# Altium footprint library MainPcblib.PcbLib: 316 footprints (part 20 of 20)
Each footprint in its own frame and in the unit in brackets; x right, y up, seen from the top. Pads: shape width x height; smd on the part's side, far side on the other; paste and mask are expansions set on the pad; w line width, h text height; cw(c..) or ccw(c..) is an arc to the next point about the centre after c.
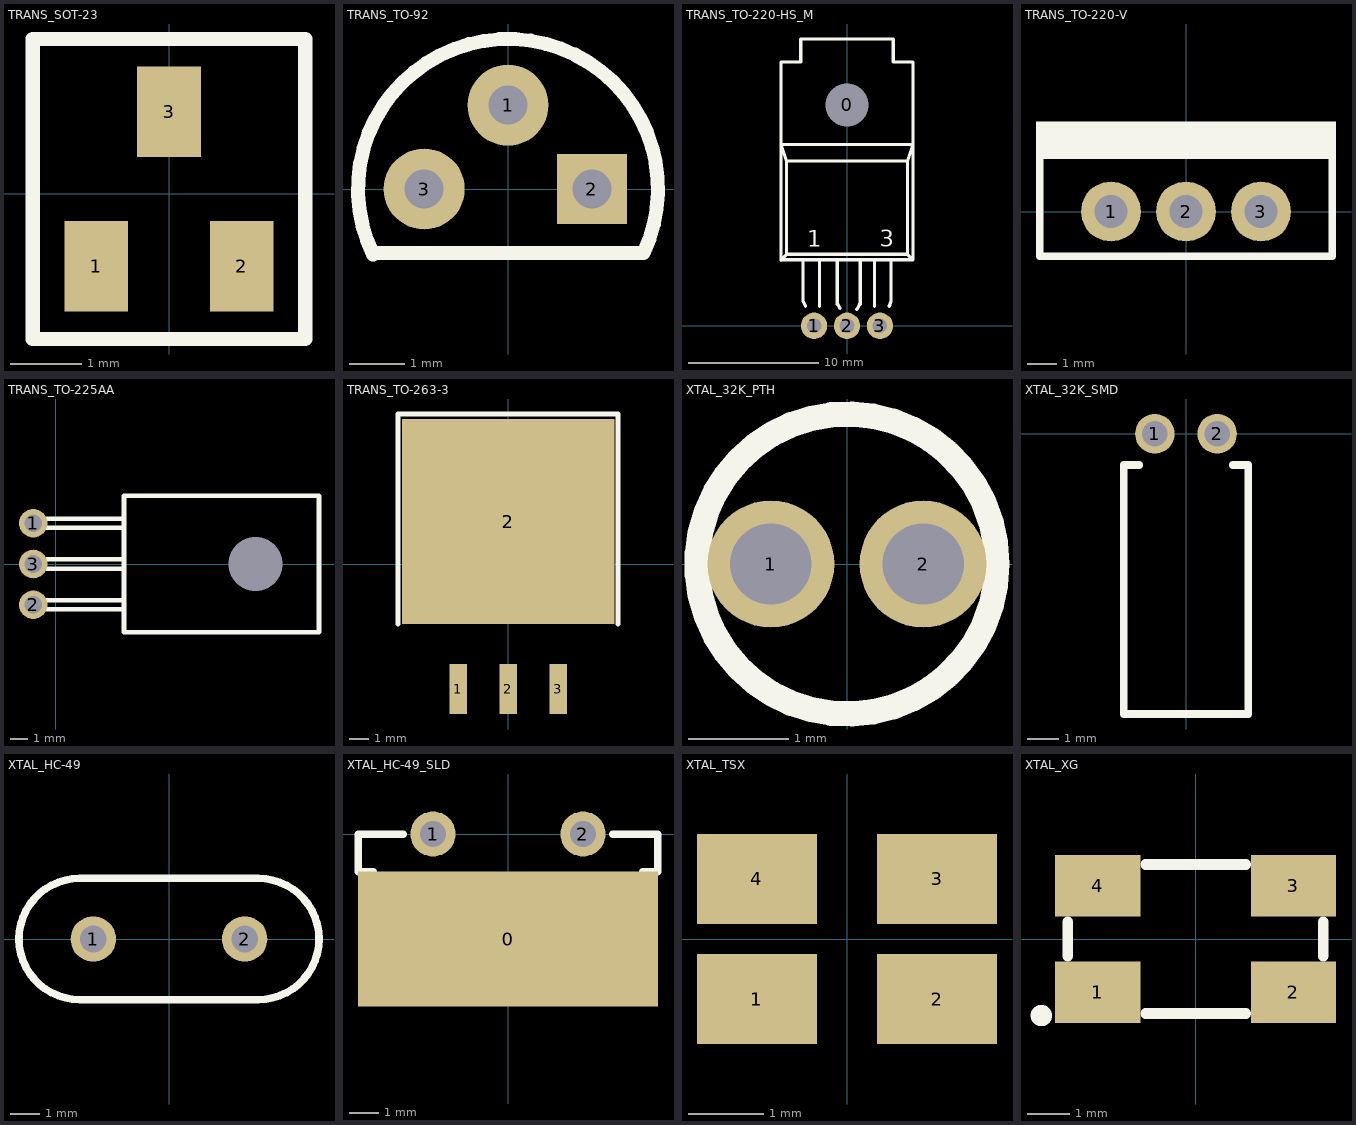
[diagram p19: the footprints below, top view; thin cyan lines are the x and y axes]

## TRANS_SOT-23 [mil]
pads (3):
  rect 35x50 smd: 1(-40,-40) 2(40,-40) 3(0,45)
Top Overlay:
  lines w7.87: -75,-80 -75,85 75,85 75,-80 -75,-80

## TRANS_TO-92 [mil]
height 275.59
pads (3):
  round 58 hole 28: 1(0,60) 3(-60,0)
  rect 50x50 hole 28: 2(60,0)
Top Overlay:
  lines w10: -96.64,-46.75 cw(c0,0) 97.02,-45.96 -95,-45.96

## TRANS_TO-220-HS_M [mil]
height 196.85
pads (4):
  round 100 hole 130: 0(0,670)
  round 80 hole 44: 1(-100,0) 2(0,0) 3(100,0)
Top Overlay:
  lines w10: -200,198.33 -200,800 -140,800 -140,870 140,870 140,800 200,800 200,200 ; -133.33,200 -133.33,75 -125.8,59.05 ; -83.33,59.05 -83.33,200 ; -30,65 -30,200 ; -30,70 -21.21,52.87 ; 30,50 38.79,67.27 ; 40,65 40,200 ; 83.33,59.05 83.33,200 ; 128,59.05 133.33,75 133.33,200 ; -183.33,216.67 183.33,216.67 ; -183.33,216.67 -200,200 200,200 ; -183.33,216.67 -183.33,500 ; -183.33,500 183.33,500 ; -183.33,500 -200,550 200,550 183.33,500 ; 183.33,216.67 183.33,500 ; 183.33,216.67 200,200
  text "1" at -120,240 h50
  text "3" at 100,240 h50

## TRANS_TO-220-V [mil]
pads (3):
  round 80 hole 44: 1(-100,0) 2(0,0) 3(100,0)
Top Overlay:
  rectangle: -200,70 200,120
  lines w10: -195,75 -195,-60 195,-60 195,75

## TRANS_TO-225AA [mm] "For BD139/140"
pads (4):
  round 0 hole 3: 0(11.176,0)
  round 1.6 hole 1: 1(-1.27,2.286) 2(-1.27,-2.286) 3(-1.27,0)
Top Overlay:
  lines w0.254: -0.508,-2.54 3.81,-2.54 ; -0.508,-2.032 3.81,-2.032 ; -0.508,-0.254 3.81,-0.254 ; -0.508,0.254 3.81,0.254 ; -0.508,2.032 3.81,2.032 ; -0.508,2.54 3.81,2.54 ; 3.81,-3.81 14.732,-3.81 14.732,3.81 3.81,3.81 3.81,-3.81

## TRANS_TO-263-3 [mil] "SMD high-power, 3pin"
pads (4):
  rect 35x100 smd: 1(-100,-250) 2(0,-250) 3(100,-250)
  rect 425x410 smd: 2(0,85)
Top Overlay:
  lines w10: -220,-120 -220,290 -220,300 220,300 220,290 220,-120

## XTAL_32K_PTH [mil]
pads (2):
  round 50 hole 32: 1(-30,0) 2(30,0)
Top Overlay:
  circle w10: c0,0 r59.06

## XTAL_32K_SMD [mm]
pads (2):
  round 1.27 hole 0.813: 1(-1,0) 2(1,0)
Top Overlay:
  lines w0.25: -1.5,-1 -2,-1 -2,-9 2,-9 2,-1 1.5,-1

## XTAL_HC-49 [mil]
pads (2):
  round 60 hole 35: 1(-100,0) 2(100,0)
Top Overlay:
  lines w10: -118.11,-80 cw(c-118.11,0) -118.11,80 118.11,80 cw(c118.11,0) 118.11,-80 -118.11,-80

## XTAL_HC-49_SLD [mil]
pads (3):
  rect 400x180 smd: 0(0,-140)
  round 60 hole 35: 1(-100,0) 2(100,0)
Top Overlay:
  lines w10: -140,0 -200,0 -200,-50 -180,-50 -180,-180 180,-180 180,-50 200,-50 200,0 140,0

## XTAL_TSX [mm]
pads (4):
  rect 1.6x1.2 smd: 1(-1.2,-0.8) 2(1.2,-0.8) 3(1.2,0.8) 4(-1.2,0.8)

## XTAL_XG [mm] "Crystal XG 6x3.5mm"
height 1.1
pads (4):
  rect 2x1.45 smd: 1(-2.3,-1.25) 2(2.3,-1.25) 3(2.3,1.25) 4(-2.3,1.25)
Top Overlay:
  circle w0.25: c-3.625,-1.8 r0.125
  lines w0.25: -3,-0.4 -3,0.4 ; -1.175,-1.75 1.175,-1.75 ; -1.175,1.75 1.175,1.75 ; 3,-0.4 3,0.4